# Altium schematic symbol library Transistors.SchLib: 11 symbols
Pins are listed as number, name and electrical type; pins without a type are passive.

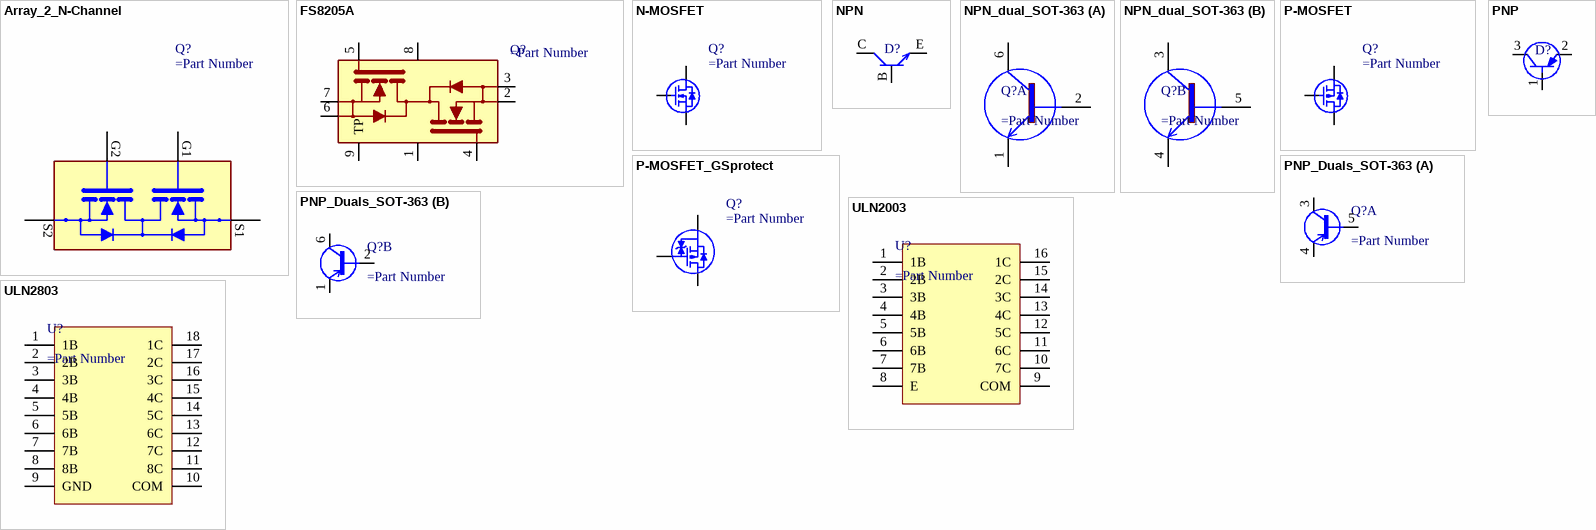
[diagram p0: symbols Array_2_N-Channel to ULN2803]

## Array_2_N-Channel
designator Q?
Manufacturer: Vishay Siliconix; FET Type: 2 N-Channel (Dual) Common Drain; Case: PowerPAK; Supplier 1: Digi-Key; Supplier Part Number 1: SISF02DN-T1-GE3CT-ND; ComponentLink1Description: HelpURL; ComponentLink1URL: https://www.vishay.com/docs/76933/sisf02dn.pdf
footprint PowerPAK
pins: G1, G2, S1, S2

## FS8205A
designator Q?
pins: 1, 2, 3, 4, 5, 6, 7, 8, 9 TP (power)

## N-MOSFET
designator Q?
pins: D, G, S

## NPN
designator D?
pins: B, C, E

## NPN_dual_SOT-363
designator Q?
footprint BC847BDW1
part A pins: 1 E2, 2 B2, 6 C2
part B pins: 3 C2, 4 E2, 5 B2

## P-MOSFET
designator Q?
pins: D, G, S

## P-MOSFET_GSprotect
designator Q?
pins: D, G, S

## PNP
designator D?
pins: 1 B, 2 C, 3 E

## PNP_Duals_SOT-363
designator Q?
part A pins: 3 C, 4 E, 5 B
part B pins: 1 E, 2 B, 6 C

## ULN2003
designator U?
pins: 1 1B, 2 2B, 3 3B, 4 4B, 5 5B, 6 6B, 7 7B, 8 E, 9 COM, 10 7C, 11 6C, 12 5C, 13 4C, 14 3C, 15 2C, 16 1C

## ULN2803
designator U?
pins: 1 1B, 2 2B, 3 3B, 4 4B, 5 5B, 6 6B, 7 7B, 8 8B, 9 GND, 10 COM, 11 8C, 12 7C, 13 6C, 14 5C, 15 4C, 16 3C, 17 2C, 18 1C